# Altium footprint library HIROSE CONNECTOR.PcbLib: 1 footprints
Each footprint in its own frame and in the unit in brackets; x right, y up, seen from the top. Pads: shape width x height; smd on the part's side, far side on the other; paste and mask are expansions set on the pad; w line width, h text height; cw(c..) or ccw(c..) is an arc to the next point about the centre after c.
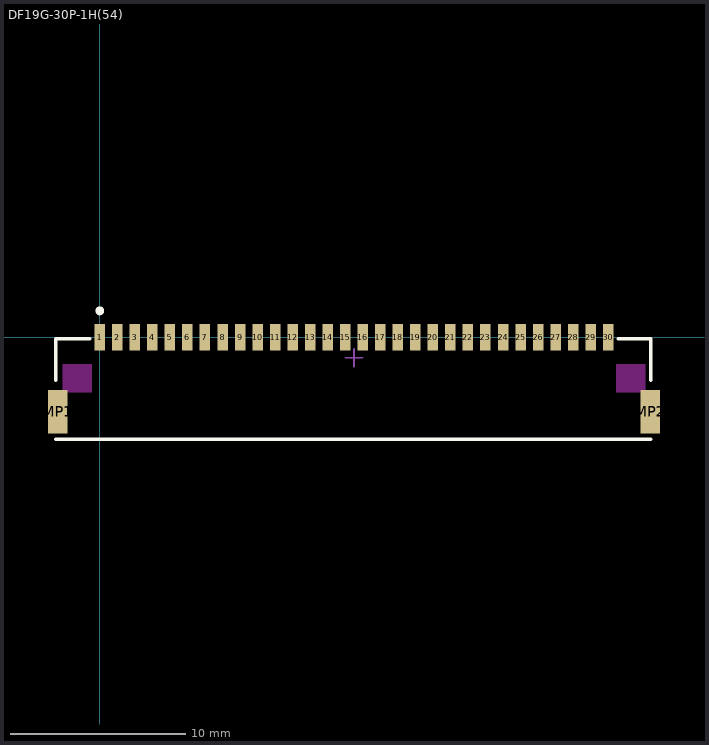
[diagram p0: the footprint, top view; thin cyan lines are the x and y axes]

## DF19G-30P-1H(54) [mm]
pads (32):
  rect 0.6x1.5 smd: 1(0,0) 2(1,0) 3(2,0) 4(3,0) 5(4,0) 6(5,0) 7(6,0) 8(7,0) 9(8,0) 10(9,0) 11(10,0) 12(11,0) 13(12,0) 14(13,0) 15(14,0) 16(15,0) 17(16,0) 18(17,0) 19(18,0) 20(19,0) 21(20,0) 22(21,0) 23(22,0) 24(23,0) 25(24,0) 26(25,0) 27(26,0) 28(27,0) 29(28,0) 30(29,0)
  rect 1.1x2.5 smd: MP1(-2.4,-4.25) MP2(31.4,-4.25)
Top Overlay:
  circle w0.25: c0,1.5 r0.125
  lines w0.2: -2.525,-2.45 -2.525,-0.1 -0.575,-0.1 ; -2.512,-5.825 31.425,-5.825 ; 29.575,-0.1 31.425,-0.1 ; 31.425,-2.45 31.425,-0.1 ; 31.425,-0.1 31.425,-0.1
Keep-Out Layer:
  region: 31.1,-1.55 29.45,-1.55 29.45,-3.15 31.1,-3.15
  region: -2.1,-1.55 -0.45,-1.55 -0.45,-3.15 -2.1,-3.15
Mechanical 13:
  lines w0.1: -2.85,-3.35 -2.85,-5.4 -2.512,-5.4 ; 31.512,-5.4 31.85,-5.4 31.85,-3.35
Mechanical 15:
  lines w0.1: 14,-1.175 15,-1.175 ; 14.5,-1.675 14.5,-0.675
3D body "DF19G-30P-1H.stp": height 1.66, standoff 0.01, extent -2.6,-5.725 31.35,-0.025